# Altium footprint library 1812.PcbLib: 1 footprints
Each footprint in its own frame and in the unit in brackets; x right, y up, seen from the top. Pads: shape width x height; smd on the part's side, far side on the other; paste and mask are expansions set on the pad; w line width, h text height; cw(c..) or ccw(c..) is an arc to the next point about the centre after c.
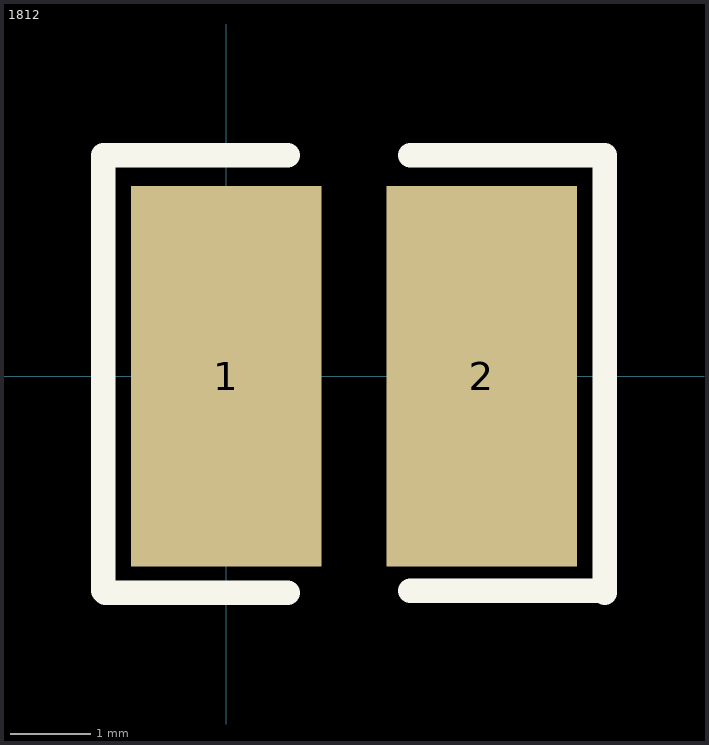
[diagram p0: the footprint, top view; thin cyan lines are the x and y axes]

## 1812 [mil]
pads (2):
  rect 93x186 smd: 1(0,0) 2(125,0)
TopOverlay:
  lines w12: 30,-106 -59,-106 -60,-105 -60,108 30,108 ; 90,-105 184,-105 185,-106 185,108 90,108
Mechanical4:
  text ".065" at 0,0 h1
3D body: height 63.67, standoff 0.6, extent -26.29,-69.18 150.87,56.81